# EAGLE library part LM75 (library misc)
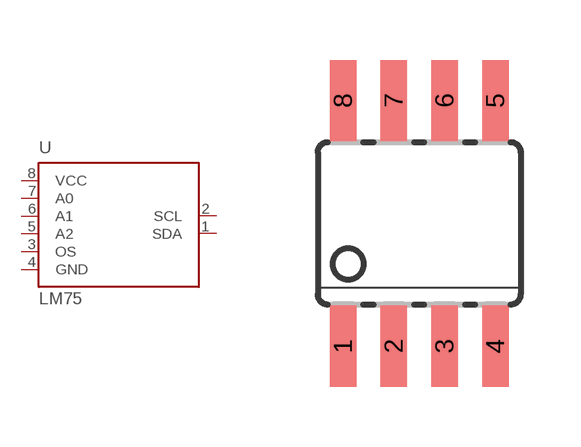
[diagram p0: symbol with the pads of SOIC8; footprint SOIC8]

Designator prefix U

## LM75  [SOIC8]
1  SDA
2  SCL
3  OS  out
4  GND  pwr
5  A2  in
6  A1  in
7  A0  in
8  VCC  in

## Footprint SOIC8 (pad centres in mm)
smd 0.66 x 2.032: 1 -1.905,-3.073; 2 -0.635,-3.073; 3 0.635,-3.073; 4 1.905,-3.073; 5 1.905,3.073; 6 0.635,3.073; 7 -0.635,3.073; 8 -1.905,3.073